# EAGLE library part PTH08T250W (library pth08)
50A 4.5V to 14V Input adjustable Power Module
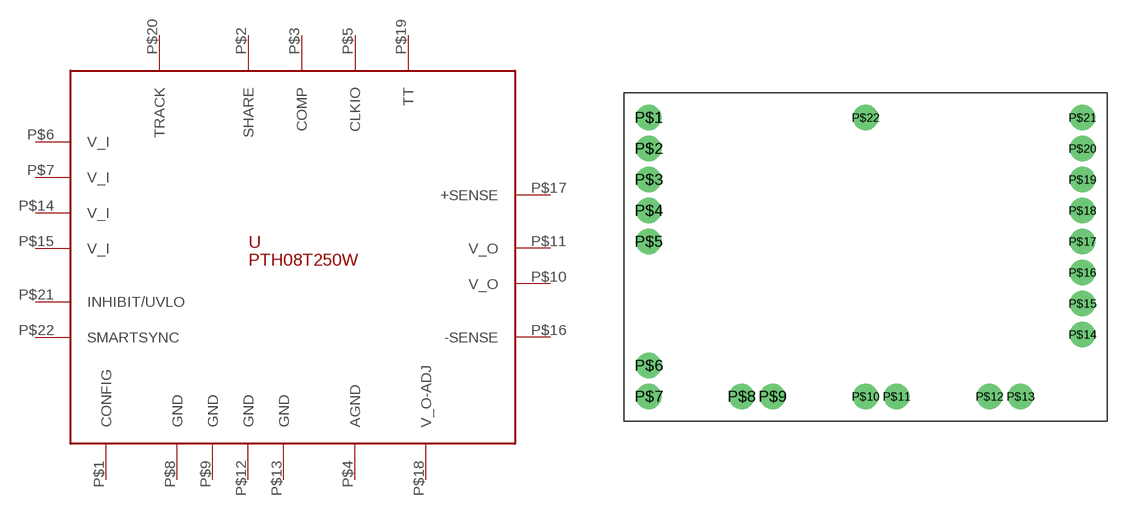
[diagram p0: symbol with the pads of ECT; footprint ECT]

Designator prefix -

## PTH08T250WAD  [ECT]
P$1  CONFIG
P$2  SHARE
P$3  COMP
P$4  AGND
P$5  CLKIO
P$6  V_I  pwr
P$7  V_I  pwr
P$8  GND  pwr
P$9  GND  pwr
P$10  V_O  sup
P$11  V_O  sup
P$12  GND  pwr
P$13  GND  pwr
P$14  V_I  pwr
P$15  V_I  pwr
P$16  -SENSE
P$17  +SENSE
P$18  V_O-ADJ
P$19  TT
P$20  TRACK
P$21  INHIBIT/UVLO
P$22  SMARTSYNC

## Footprint ECT (pad centres in mm)
drill 1.4: P$1 -17.78,10.16; P$2 -17.78,7.62; P$3 -17.78,5.08; P$4 -17.78,2.54; P$5 -17.78,0; P$6 -17.78,-10.16; P$7 -17.78,-12.7; P$8 -10.16,-12.7; P$9 -7.62,-12.7; P$10 0,-12.7; P$11 2.54,-12.7; P$12 10.16,-12.7; P$13 12.7,-12.7; P$14 17.78,-7.62; P$15 17.78,-5.08; P$16 17.78,-2.54; P$17 17.78,0; P$18 17.78,2.54; P$19 17.78,5.08; P$20 17.78,7.62; P$21 17.78,10.16; P$22 0,10.16